# Altium schematic symbol library PMS171B-S08.SchLib: 1 symbol
Pins are listed as number, name and electrical type; pins without a type are passive.

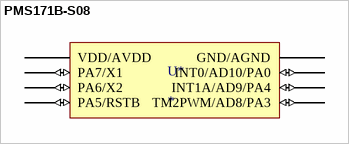
[diagram p0: symbol PMS171B-S08]

## PMS171B-S08
designator U*
PMS171B-S08
footprint PMS171B-S08 (SOP, 8-Leads, Body 4,90x3,90mm, Pitch 1,27mm, IPC Medium Density)
pins: 1 VDD/AVDD (power), 2 PA7/X1 (io), 3 PA6/X2 (io), 4 PA5/RSTB (io), 5 TM2PWM/AD8/PA3 (io), 6 INT1A/AD9/PA4 (io), 7 INT0/AD10/PA0 (io), 8 GND/AGND